# EAGLE library part TDA8943SF (library Audio-Power-amplifier)
6 W mono Bridge Tied Load (BTL) audio amplifier
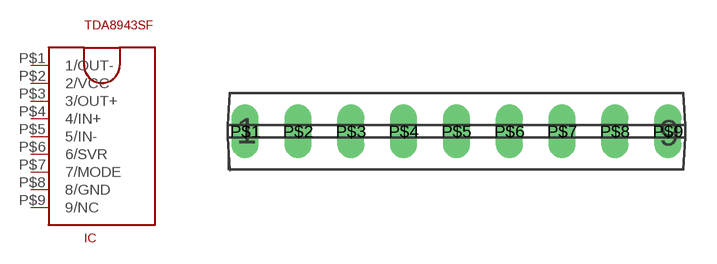
[diagram p44: symbol with the pads of SOT110-1; footprint SOT110-1]

Designator prefix IC

## TDA8943SF  [SOT110-1]
P$1  1/OUT-  out
P$2  2/VCC  pwr
P$3  3/OUT+  out
P$4  4/IN+  in
P$5  5/IN-  in
P$6  6/SVR
P$7  7/MODE
P$8  8/GND  pwr
P$9  9/NC  nc

## Footprint SOT110-1 (pad centres in mm)
drill 0.8 long: P$1 -10.16,0; P$2 -7.62,0; P$3 -5.08,0; P$4 -2.54,0; P$5 0,0; P$6 2.54,0; P$7 5.08,0; P$8 7.62,0; P$9 10.16,0